# Altium footprint library 691 307 400 0xx.PcbLib: 6 footprints
Each footprint in its own frame and in the unit in brackets; x right, y up, seen from the top. Pads: shape width x height; smd on the part's side, far side on the other; paste and mask are expansions set on the pad; w line width, h text height; cw(c..) or ccw(c..) is an arc to the next point about the centre after c.
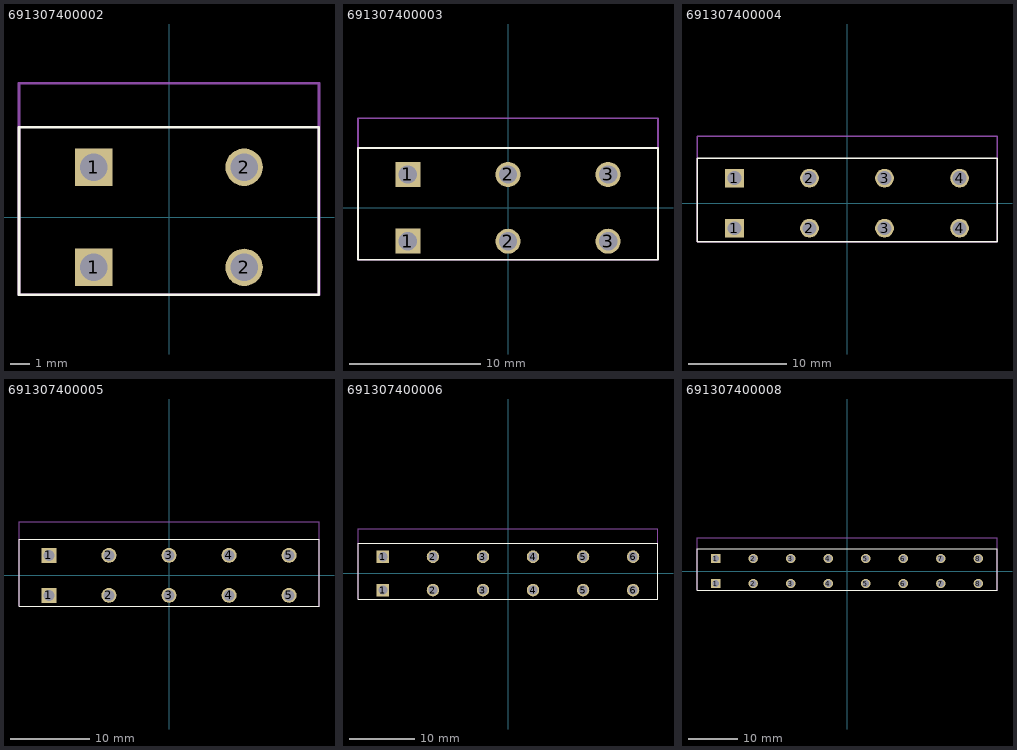
[diagram p0: the footprints below, top view; thin cyan lines are the x and y axes]

## 691307400002 [mm] "7.62 mm - Reversed Gender Vertical PCB Header - 02p"
height 19
pads (4):
  rect 1.9x1.9 hole 1.4: 1(-3.81,-2.54) 1(-3.81,2.54)
  round 1.9 hole 1.4: 2(3.81,-2.54) 2(3.81,2.54)
Top Overlay:
  lines w0.127: -7.61,-3.94 7.61,-3.94 7.61,4.56 -7.61,4.56 -7.61,-3.94
Mechanical 13:
  lines w0.127: -7.61,-3.94 -7.61,6.81 7.61,6.81 7.61,-3.94 -7.61,-3.94
3D body: height 19.01, standoff -3.49, extent -7.67,-3.94 7.67,6.81

## 691307400003 [mm] "7.62 mm - Reversed Gender Vertical PCB Header - 03p"
height 19
pads (6):
  rect 1.9x1.9 hole 1.4: 1(-7.62,-2.54) 1(-7.62,2.54)
  round 1.9 hole 1.4: 2(0,-2.54) 2(0,2.54) 3(7.62,-2.54) 3(7.62,2.54)
Top Overlay:
  lines w0.127: -11.42,-3.94 -11.42,4.56 11.42,4.56 11.42,-3.94 -11.42,-3.94
Mechanical 13:
  lines w0.127: -11.42,-3.94 11.42,-3.94 11.42,6.81 -11.42,6.81 -11.42,-3.94
3D body: height 19.01, standoff -3.49, extent -11.48,-3.94 11.48,6.81

## 691307400004 [mm] "7.62 mm - Reversed Gender Vertical PCB Header - 04p"
height 19
pads (8):
  rect 1.9x1.9 hole 1.4: 1(-11.43,-2.54) 1(-11.43,2.54)
  round 1.9 hole 1.4: 2(-3.81,-2.54) 2(-3.81,2.54) 3(3.81,-2.54) 3(3.81,2.54) 4(11.43,-2.54) 4(11.43,2.54)
Top Overlay:
  lines w0.127: -15.23,-3.94 15.23,-3.94 15.23,4.56 -15.23,4.56 -15.23,-3.94
Mechanical 13:
  lines w0.127: -15.23,-3.94 -15.23,6.81 15.23,6.81 15.23,-3.94 -15.23,-3.94
3D body: height 19.01, standoff -3.49, extent -15.29,-3.94 15.29,6.81

## 691307400005 [mm] "7.62 mm - Reversed Gender Vertical PCB Header - 05p"
height 19
pads (10):
  rect 1.9x1.9 hole 1.4: 1(-15.24,-2.54) 1(-15.24,2.54)
  round 1.9 hole 1.4: 2(-7.62,-2.54) 2(-7.62,2.54) 3(0,-2.54) 3(0,2.54) 4(7.62,-2.54) 4(7.62,2.54) 5(15.24,-2.54) 5(15.24,2.54)
Top Overlay:
  lines w0.127: -19.04,-3.94 19.04,-3.94 19.04,4.56 -19.04,4.56 -19.04,-3.94
Mechanical 13:
  lines w0.127: -19.04,-3.94 -19.04,6.81 19.04,6.81 19.04,-3.94 -19.04,-3.94
3D body: height 19.01, standoff -3.49, extent -19.1,-3.94 19.1,6.81

## 691307400006 [mm] "7.62 mm - Reversed Gender Vertical PCB Header - 06p"
height 19
pads (12):
  rect 1.9x1.9 hole 1.4: 1(-19.05,-2.54) 1(-19.05,2.54)
  round 1.9 hole 1.4: 2(-11.43,-2.54) 2(-11.43,2.54) 3(-3.81,-2.54) 3(-3.81,2.54) 4(3.81,-2.54) 4(3.81,2.54) 5(11.43,-2.54) 5(11.43,2.54) 6(19.05,-2.54) 6(19.05,2.54)
Top Overlay:
  lines w0.127: -22.85,-3.94 22.85,-3.94 22.85,4.56 -22.85,4.56 -22.85,-3.94
Mechanical 13:
  lines w0.127: -22.85,-3.94 -22.85,6.81 22.85,6.81 22.85,-3.94 -22.85,-3.94
3D body: height 19.01, standoff -3.49, extent -22.91,-3.94 22.91,6.81

## 691307400008 [mm] "7.62 mm - Reversed Gender Vertical PCB Header - 08p"
height 19
pads (16):
  rect 1.9x1.9 hole 1.4: 1(-26.67,-2.54) 1(-26.67,2.54)
  round 1.9 hole 1.4: 2(-19.05,-2.54) 2(-19.05,2.54) 3(-11.43,-2.54) 3(-11.43,2.54) 4(-3.81,-2.54) 4(-3.81,2.54) 5(3.81,-2.54) 5(3.81,2.54) 6(11.43,-2.54) 6(11.43,2.54) 7(19.05,-2.54) 7(19.05,2.54) 8(26.67,-2.54) 8(26.67,2.54)
Top Overlay:
  lines w0.127: -30.47,-3.94 -30.47,4.56 30.47,4.56 30.47,-3.94 -30.47,-3.94
Mechanical 13:
  lines w0.127: -30.47,-3.94 30.47,-3.94 30.47,6.81 -30.47,6.81 -30.47,-3.94
3D body: height 19.01, standoff -3.49, extent -30.53,-3.94 30.53,6.81